# EAGLE library part 690_368_17_8_7 (library SHC)
MM FEMALE ANGLED CONNECTOR WITH POLARIZATION WITHOUT LATCH
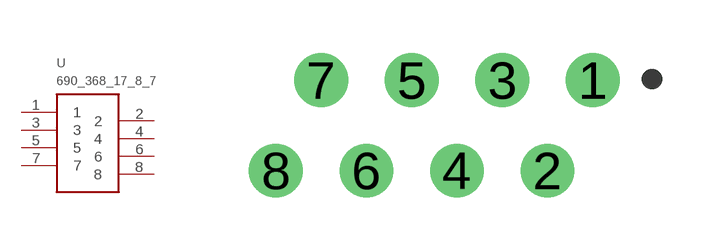
[diagram p20: symbol with the pads of 690_368_17_8_7; footprint 690_368_17_8_7]

Designator prefix -

## 690_368_17_8_7  [690_368_17_8_7]
1  1
2  2
3  3
4  4
5  5
6  6
7  7
8  8

## Footprint 690_368_17_8_7 (pad centres in mm)
drill 1: 1 5.08,1.27; 2 3.81,-1.27; 3 2.54,1.27; 4 1.27,-1.27; 5 0,1.27; 6 -1.27,-1.27; 7 -2.54,1.27; 8 -3.81,-1.27